# EAGLE library part TD1410 (library IC & Transistor)
2A 380KHz 20V PWM Buck DC/DC Converter
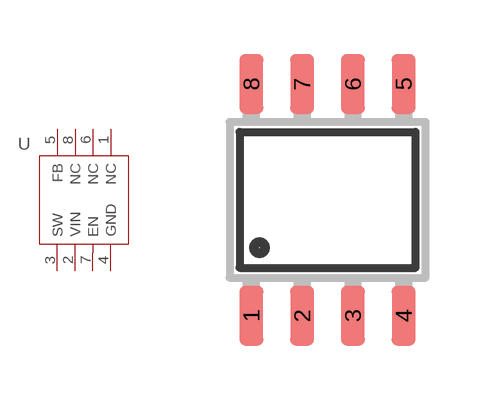
[diagram p88: symbol with the pads of SOIC-08N; footprint SOIC-08N]

Designator prefix U

## TD1410 (DESC: 2A 380KHZ 20V PWM Buck DC/DC Converter; MF: Testcode; MPN: TD1410; VALUE: 2A)  [SOIC-08N]
1  NC  nc
2  VIN  in
3  SW  out
4  GND  sup
5  FB  in
6  NC  nc
7  EN  in
8  NC  nc

## Footprint SOIC-08N (pad centres in mm)
Small Outline Integrated Circuit (SOIC) Narrow (JEDEC) SOIC Package Size: 4.9mm x 3.9mm Lead Pitch: 1.27mm
smd 0.6 x 1.5: 1 -1.905,-2.9; 2 -0.635,-2.9; 3 0.635,-2.9; 4 1.905,-2.9; 5 1.905,2.9; 6 0.635,2.9; 7 -0.635,2.9; 8 -1.905,2.9